# EAGLE library part LTC3216 (library heck)
1A Low Noise High Current LED Charge Pump with Independent Torch/Flash Current Control
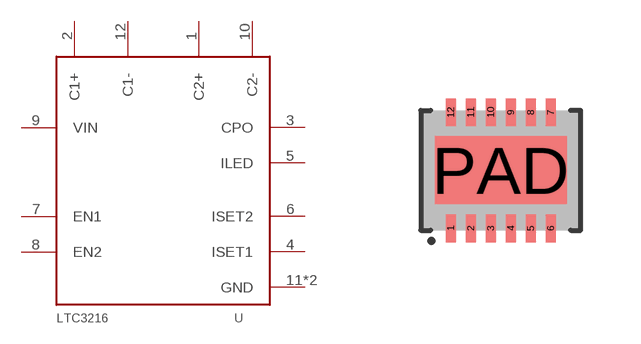
[diagram p50: symbol with the pads of DFN-12; footprint DFN-12]

Designator prefix U

## LTC3216DE  [DFN-12]
1  C2+  in
2  C1+  in
3  CPO  out
4  ISET1  in
5  ILED  in
6  ISET2  in
7  EN1  in
8  EN2  in
9  VIN  pwr
10  C2-  in
11  GND  pwr
12  C1-  in
PAD  GND  pwr

## Footprint DFN-12 (pad centres in mm)
smd 0.25 x 0.7: 1 -1.25,-1.45; 2 -0.75,-1.45; 3 -0.25,-1.45; 4 0.25,-1.45; 5 0.75,-1.45; 6 1.25,-1.45; 7 1.25,1.45; 8 0.75,1.45; 9 0.25,1.45; 10 -0.25,1.45; 11 -0.75,1.45; 12 -1.25,1.45
smd 3.3 x 1.7: PAD 0,0